# Altium integrated library Seeed-OPL-sensor.IntLib: 54 symbols
Pins are listed as number, name and electrical type; pins without a type are passive.

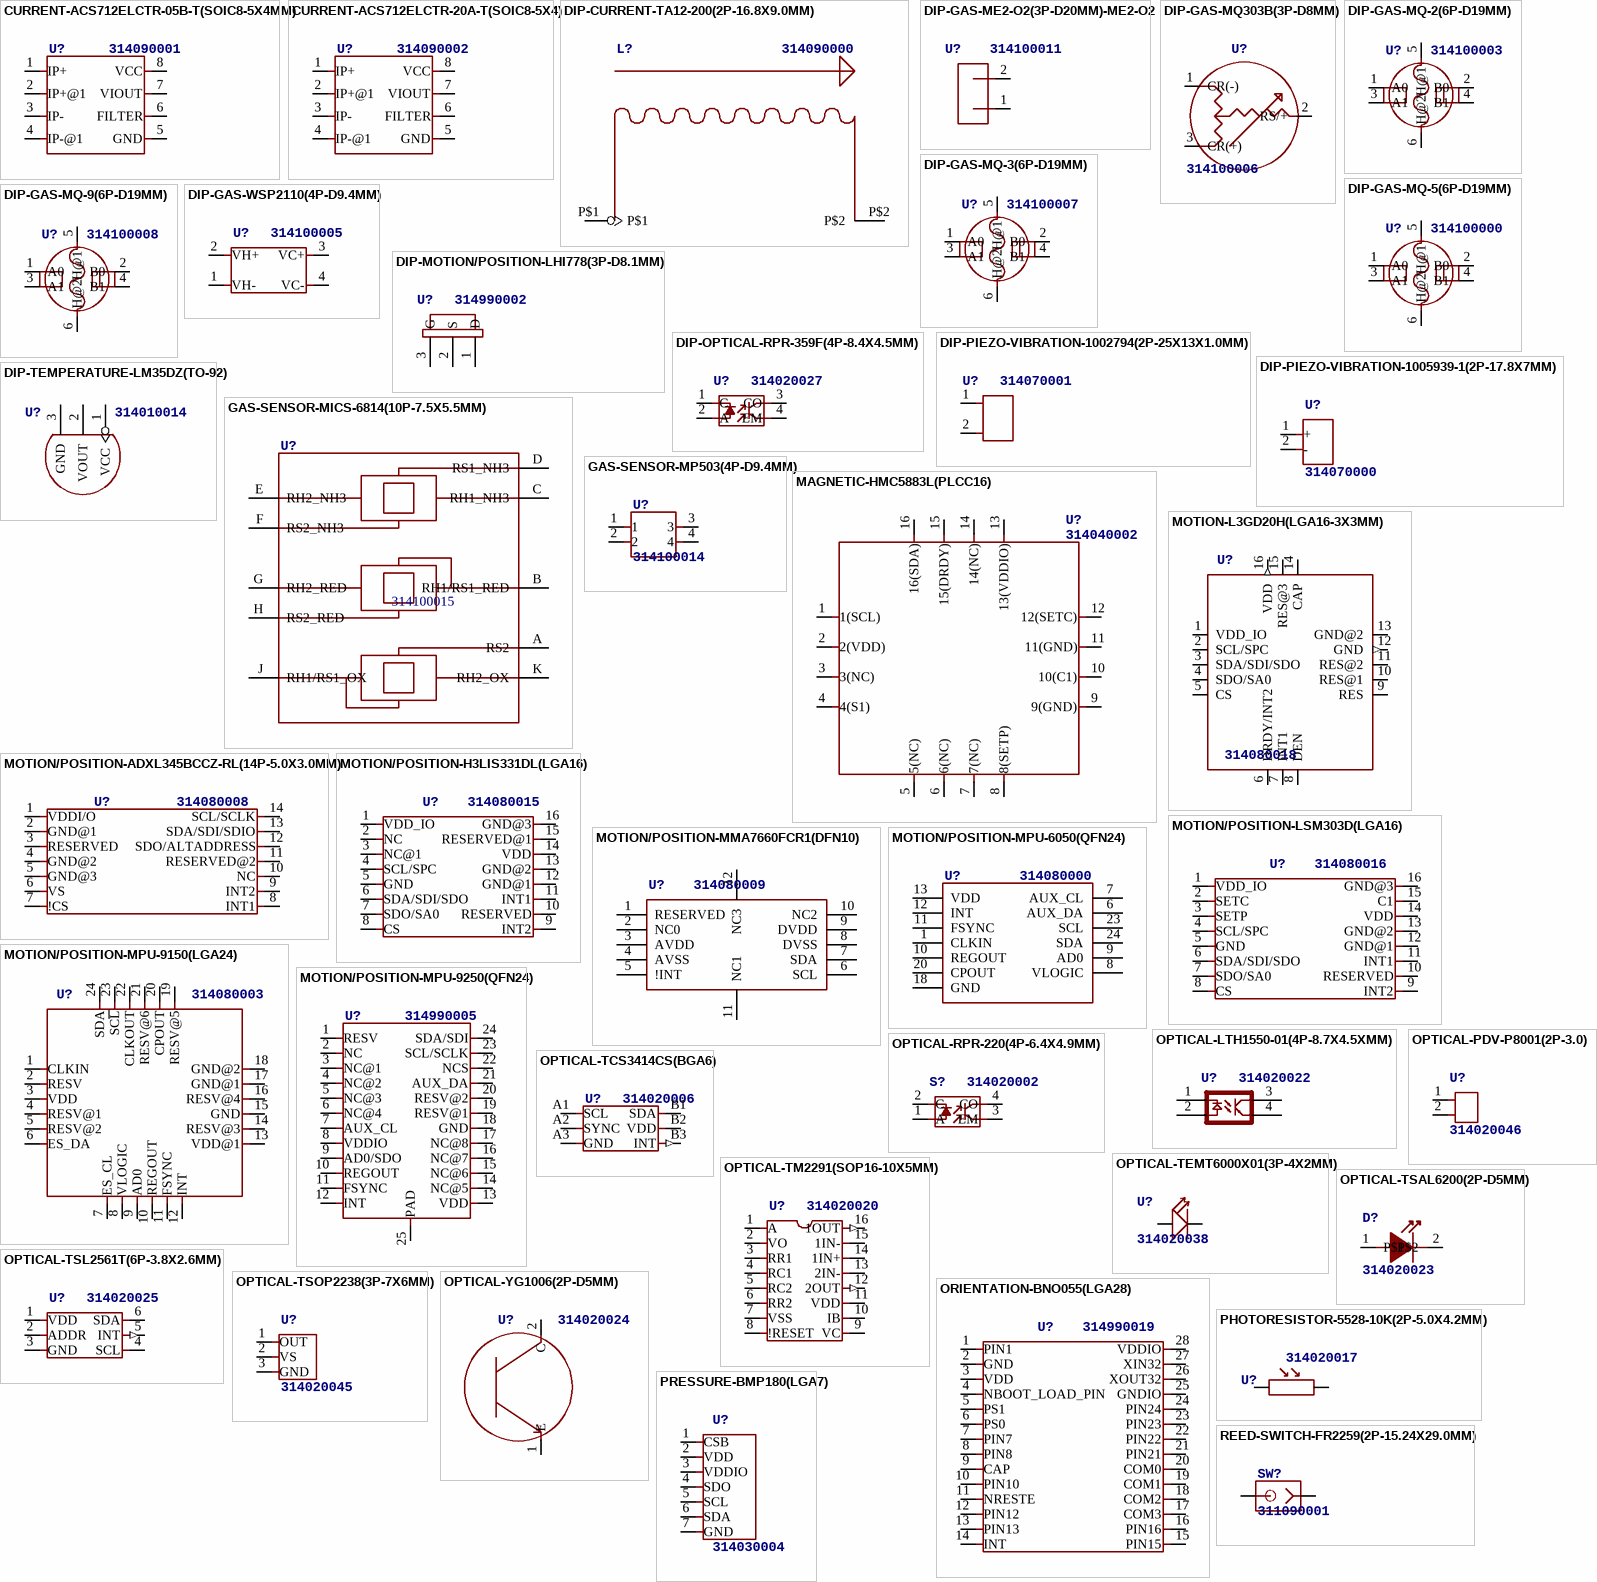
[diagram p0: symbols CURRENT-ACS712ELCTR-05B-T(SOIC8-5X4MM) to REED-SWITCH-FR2259(2P-15.24X29.0MM)]

## CURRENT-ACS712ELCTR-05B-T(SOIC8-5X4MM)
designator U?, comment 314090001
MPN: ACS712ELCTR-05B-T
footprint SOIC8-1.27-5X4MM
pins: 1 IP+, 2 IP+@1, 3 IP-, 4 IP-@1, 5 GND, 6 FILTER, 7 VIOUT, 8 VCC

## CURRENT-ACS712ELCTR-20A-T(SOIC8-5X4)
designator U?, comment 314090002
MPN: ACS712ELCTR-20A-T
footprint SOIC8-1.27-5X4MM
pins: 1 IP+, 2 IP+@1, 3 IP-, 4 IP-@1, 5 GND, 6 FILTER, 7 VIOUT, 8 VCC

## DIP-CURRENT-TA12-200(2P-16.8X9.0MM)
designator L?, comment 314090000
MPN: TA12-200
footprint SNR2-12.8-16.8X9.0X32.0MM
pins: P$1, P$2

## DIP-GAS-ME2-O2(3P-D20MM)-ME2-O2
designator U?, comment 314100011
MPN: GAS-ME2-O2
footprint SNR3-D20.2XH16.5MM
pins: 1, 2

## DIP-GAS-MQ303B(3P-D8MM)
designator U?, comment 314100006
MPN: MQ303B
footprint SNR3-2.2-D8XH7MM
pins: 1 CR(-), 2 RS/+, 3 CR(+)

## DIP-GAS-MQ-2(6P-D19MM)
designator U?, comment 314100003
MPN: MQ-2
footprint SNR6-D19.0MM
pins: 1 A0, 2 B0, 3 A1, 4 B1, 5 H@1, 6 H@2

## DIP-GAS-MQ-3(6P-D19MM)
designator U?, comment 314100007
MPN: MQ-3
footprint SNR6-D19.0MM
pins: 1 A0, 2 B0, 3 A1, 4 B1, 5 H@1, 6 H@2

## DIP-GAS-MQ-5(6P-D19MM)
designator U?, comment 314100000
MPN: MQ-5
footprint SNR6-D19.0MM
pins: 1 A0, 2 B0, 3 A1, 4 B1, 5 H@1, 6 H@2

## DIP-GAS-MQ-9(6P-D19MM)
designator U?, comment 314100008
MPN: MQ-9
footprint SNR6-D19.0MM
pins: 1 A0, 2 B0, 3 A1, 4 B1, 5 H@1, 6 H@2

## DIP-GAS-WSP2110(4P-D9.4MM)
designator U?, comment 314100005
MPN: WSP2110
footprint SNR4-3.5-D9.4XH7.6MM
pins: 1 VH-, 2 VH+, 3 VC+, 4 VC-

## DIP-MOTION/POSITION-LHI778(3P-D8.1MM)
designator U?, comment 314990002
MPN: LHI778
footprint SNR3-D8.1XH4.2MM
pins: 1 D, 2 S, 3 G

## DIP-OPTICAL-RPR-359F(4P-8.4X4.5MM)
designator U?, comment 314020027
MPN: RPR-359F
footprint SNR4-8.7X4.5X5.8MM
pins: 1 C, 2 A, 3 CO, 4 EM

## DIP-PIEZO-VIBRATION-1002794(2P-25X13X1.0MM)
designator U?, comment 314070001
MPN: VIBRATION-1002794
footprint SNR2-5.1-25.0X13.0X1.0MM
pins: 1, 2

## DIP-PIEZO-VIBRATION-1005939-1(2P-17.8X7MM)
designator U?, comment 314070000
MPN: VIBRATION-1005939-1
footprint SNR2-2.54-17.8X7.0X1.4MM
pins: 1 +, 2 -

## DIP-TEMPERATURE-LM35DZ(TO-92)
designator U?, comment 314010014
MPN: LM35DZ
footprint TO-92
pins: 1 VCC, 2 VOUT, 3 GND

## GAS-SENSOR-MICS-6814(10P-7.5X5.5MM)
designator U?, comment 314100015
MPN: MICS-6814
footprint SNR10-SMD-1.25-7.5X5.5MM
pins: A RS2, B RH1/RS1_RED, C RH1_NH3, D RS1_NH3, E RH2_NH3, F RS2_NH3, G RH2_RED, H RS2_RED, J RH1/RS1_OX, K RH2_OX

## GAS-SENSOR-MP503(4P-D9.4MM)
designator U?, comment 314100014
MPN: MP503
footprint SNR4-3.1-D9.4XH17MM
pins: 1, 2, 3, 4

## MAGNETIC-HMC5883L(PLCC16)
designator U?, comment 314040002
MPN: HMC5883L
footprint PLCC16-0.5-3X3MM
pins: 1 1(SCL), 2 2(VDD) (oe), 3 3(NC), 4 4(S1), 5 5(NC), 6 6(NC), 7 7(NC), 8 8(SETP), 9 9(GND) (power), 10 10(C1), 11 11(GND) (oe), 12 12(SETC), 13 13(VDDIO) (oe), 14 14(NC), 15 15(DRDY), 16 16(SDA)

## MOTION-L3GD20H(LGA16-3X3MM)
designator U?, comment 314080018
MPN: L3GD20H
footprint LGA16-0.5-3X3MM
pins: 1 VDD_IO, 2 SCL/SPC, 3 SDA/SDI/SDO, 4 SDO/SA0, 5 CS, 6 DRDY/INT2, 7 INT1 (oe), 8 DEN, 9 RES, 10 RES@1, 11 RES@2 (oe), 12 GND (out), 13 GND@2, 14 CAP, 15 RES@3, 16 VDD (out)

## MOTION/POSITION-ADXL345BCCZ-RL(14P-5.0X3.0MM)
designator U?, comment 314080008
MPN: ADXL345BCCZ-RL
footprint LGA14-0.8-5.0X3.0MM
pins: 1 VDDI/O (oe), 2 GND@1 (oe), 3 RESERVED, 4 GND@2 (oe), 5 GND@3 (oe), 6 VS, 7 !CS, 8 INT1, 9 INT2, 10 NC, 11 RESERVED@2, 12 SDO/ALTADDRESS, 13 SDA/SDI/SDIO, 14 SCL/SCLK

## MOTION/POSITION-H3LIS331DL(LGA16)
designator U?, comment 314080015
MPN: H3LIS331DL
footprint LGA16-0.5-3X3MM
pins: 1 VDD_IO, 2 NC, 3 NC@1, 4 SCL/SPC, 5 GND, 6 SDA/SDI/SDO, 7 SDO/SA0, 8 CS, 9 INT2, 10 RESERVED, 11 INT1, 12 GND@1, 13 GND@2, 14 VDD, 15 RESERVED@1, 16 GND@3

## MOTION/POSITION-LSM303D(LGA16)
designator U?, comment 314080016
MPN: LSM303D
footprint LGA16-0.5-3X3MM
pins: 1 VDD_IO, 2 SETC, 3 SETP, 4 SCL/SPC, 5 GND, 6 SDA/SDI/SDO, 7 SDO/SA0, 8 CS, 9 INT2, 10 RESERVED, 11 INT1, 12 GND@1, 13 GND@2, 14 VDD, 15 C1, 16 GND@3

## MOTION/POSITION-MMA7660FCR1(DFN10)
designator U?, comment 314080009
MPN: MMA7660FCR1
footprint DFN10-0.5-3.0X3.0MM
pins: 1 RESERVED, 2 NC0, 3 AVDD, 4 AVSS, 5 !INT, 6 SCL, 7 SDA, 8 DVSS, 9 DVDD, 10 NC2, 11 NC1, 12 NC3

## MOTION/POSITION-MPU-6050(QFN24)
designator U?, comment 314080000
MPN: MPU-6050
footprint QFN24G-0.5-4X4MM
pins: 1 CLKIN, 6 AUX_DA, 7 AUX_CL, 8 VLOGIC, 9 AD0, 10 REGOUT, 11 FSYNC, 12 INT, 13 VDD, 18 GND, 20 CPOUT, 23 SCL, 24 SDA

## MOTION/POSITION-MPU-9150(LGA24)
designator U?, comment 314080003
MPN: MPU-9150
footprint LGA24-0.5-4X4MM
pins: 1 CLKIN, 2 RESV, 3 VDD, 4 RESV@1, 5 RESV@2, 6 ES_DA, 7 ES_CL, 8 VLOGIC, 9 AD0, 10 REGOUT, 11 FSYNC, 12 INT, 13 VDD@1, 14 RESV@3, 15 GND, 16 RESV@4, 17 GND@1, 18 GND@2, 19 RESV@5, 20 CPOUT, 21 RESV@6, 22 CLKOUT, 23 SC~{L}, 24 SDA

## MOTION/POSITION-MPU-9250(QFN24)
designator U?, comment 314990005
MPN: MPU-9250
footprint QFN24G-0.4-3X3MM
pins: 1 RESV, 2 NC, 3 NC@1, 4 NC@2, 5 NC@3, 6 NC@4, 7 AUX_CL, 8 VDDIO, 9 AD0/SDO, 10 REGOUT, 11 FSYNC, 12 INT, 13 VDD, 14 NC@5, 15 NC@6, 16 NC@7, 17 NC@8, 18 GND, 19 RESV@1, 20 RESV@2, 21 AUX_DA, 22 NCS, 23 SCL/SCLK, 24 SDA/SDI, 25 PAD

## OPTICAL-LTH1550-01(4P-8.7X4.5XMM)
designator U?, comment 314020022
MPN: LTH1550-01
footprint SNR4-2.54-8.7X4.5X5.8MM
pins: 1, 2, 3, 4

## OPTICAL-PDV-P8001(2P-3.0)
designator U?, comment 314020046
MPN: PDV-P8001
footprint SNR2-3.0
pins: 1, 2

## OPTICAL-RPR-220(4P-6.4X4.9MM)
designator S?, comment 314020002
MPN: RPR-220
footprint SNR4-8.7X4.5X5.8MM
pins: 1 A, 2 C, 3 EM, 4 CO

## OPTICAL-TCS3414CS(BGA6)
designator U?, comment 314020006
MPN: TCS3414CS
footprint BGA6-0.6-2.0X1.9MM
pins: A1 SCL, A2 SYNC, A3 GND (oe), B1 SDA, B2 VDD (power), B3 INT (out)

## OPTICAL-TEMT6000X01(3P-4X2MM)
designator U?, comment 314020038
MPN: TEMT6000X01
footprint SNR3-4X2X1.05MM
pins: 1 2 +, 3 -

## OPTICAL-TM2291(SOP16-10X5MM)
designator U?, comment 314020020
MPN: TM2291
footprint SOP16-1.27-10.0X5.0MM
pins: 1 A, 2 VO, 3 RR1, 4 RC1, 5 RC2, 6 RR2, 7 VSS (oe), 8 !RESET, 9 VC, 10 IB, 11 VDD (oe), 12 2OUT (out), 13 2IN-, 14 1IN+, 15 1IN-, 16 1OUT (out)

## OPTICAL-TSAL6200(2P-D5MM)
designator D?, comment 314020023
MPN: TSAL6200
footprint SNR2-2.54-D5.0MM
pins: 1 P$1, 2 P$2

## OPTICAL-TSL2561T(6P-3.8X2.6MM)
designator U?, comment 314020025
MPN: TSL2561T
footprint TMB6-1.55-3.8X2.6MM
pins: 1 VDD (oe), 2 ADDR, 3 GND (oe), 4 SCL, 5 INT (out), 6 SDA

## OPTICAL-TSOP2238(3P-7X6MM)
designator U?, comment 314020045
MPN: TSOP2238
footprint SNR3-2.54-6.95X6.0X5.6MM
pins: 1 OUT, 2 VS, 3 GND

## OPTICAL-YG1006(2P-D5MM)
designator U?, comment 314020024
MPN: YG1006
footprint 2P-2.54-5MM
pins: 1 E, 2 C

## ORIENTATION-BNO055(LGA28)
designator U?, comment 314990019
MPN: BNO055
footprint LGA28-0.5-5.2X3.8
pins: 1 PIN1, 2 GND, 3 VDD, 4 NBOOT_LOAD_PIN, 5 PS1, 6 PS0, 7 PIN7, 8 PIN8, 9 CAP, 10 PIN10, 11 NRESTE, 12 PIN12, 13 PIN13, 14 INT, 15 PIN15, 16 PIN16, 17 COM3, 18 COM2, 19 COM1, 20 COM0, 21 PIN21, 22 PIN22, 23 PIN23, 24 PIN24, 25 GNDIO, 26 XOUT32, 27 XIN32, 28 VDDIO

## PHOTORESISTOR-5528-10K(2P-5.0X4.2MM)
designator U?, comment 314020017
MPN: PHOTORESISTOR-5528-10K
footprint SNR2-3.0
pins: 1 P$1, 2 P$2

## PRESSURE-BMP180(LGA7)
designator U?, comment 314030004
MPN: BMP18
footprint LGA7-1.5-3.8X3.6MM
pins: 1 CSB, 2 VDD, 3 VDDIO, 4 SDO, 5 SCL, 6 SDA, 7 GND

## REED-SWITCH-FR2259(2P-15.24X29.0MM)
designator SW?, comment 311090001
MPN: FR2259
footprint SW2-SMD-15.24X2.29.0X2.03MM
pins: 1, 2

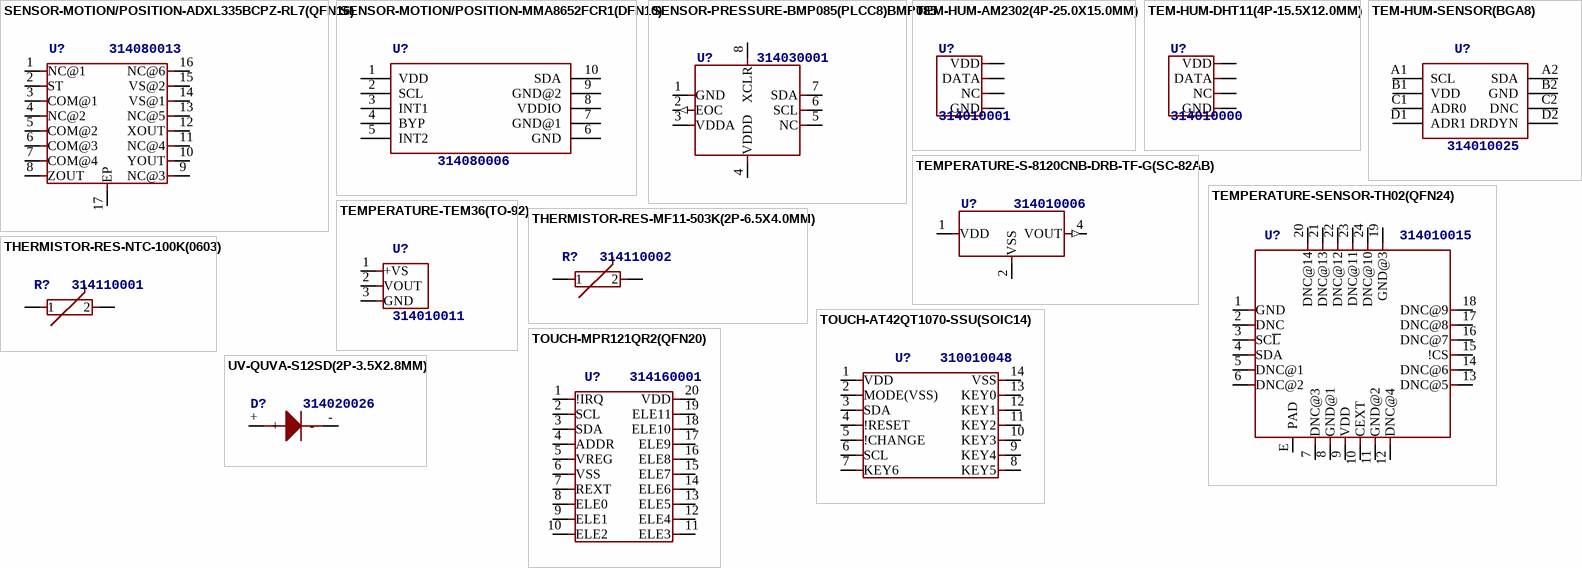
[diagram p1: symbols SENSOR-MOTION/POSITION-ADXL335BCPZ-RL7(QFN16) to UV-QUVA-S12SD(2P-3.5X2.8MM)]

## SENSOR-MOTION/POSITION-ADXL335BCPZ-RL7(QFN16)
designator U?, comment 314080013
MPN: ADXL335BCPZ-RL7
footprint QFN16G-0.65-4X4MM
pins: 1 NC@1, 2 ST, 3 COM@1, 4 NC@2, 5 COM@2, 6 COM@3, 7 COM@4, 8 ZOUT, 9 NC@3, 10 YOUT, 11 NC@4, 12 XOUT, 13 NC@5, 14 VS@1, 15 VS@2, 16 NC@6, 17 EP

## SENSOR-MOTION/POSITION-MMA8652FCR1(DFN10)
designator U?, comment 314080006
MPN: MMA8652FCR1
footprint DFN10-0.4-2X2MM
pins: 1 VDD (power), 2 SCL, 3 INT1, 4 BYP, 5 INT2, 6 GND (oe), 7 GND@1 (oe), 8 VDDIO (power), 9 GND@2 (oe), 10 SDA

## SENSOR-PRESSURE-BMP085(PLCC8)BMP085
designator U?, comment 314030001
MPN: BMP085
footprint LCC8-1.27-5.0X5.0MM
pins: 1 GND (oe), 2 EOC (out), 3 VDDA (oe), 4 VDDD (oe), 5 NC, 6 SCL, 7 SDA, 8 XCLR

## TEM-HUM-AM2302(4P-25.0X15.0MM)
designator U?, comment 314010001
MPN: AM2302
footprint SNR4-2.54-25.0X15.0X7.0MM
pins: P$1 VDD (oe), P$2 DATA, P$3 NC, P$4 GND (oe)

## TEM-HUM-DHT11(4P-15.5X12.0MM)
designator U?, comment 314010000
MPN: DHT11
footprint SNR4-2.54-15.5X12.0X5.5MM
pins: 1 VDD (oe), 2 DATA, 3 NC, 4 GND (oe)

## TEM-HUM-SENSOR(BGA8)
designator U?, comment 314010025
PMN: HDC1000YPAT
footprint SNR8-SMD-0.5-2.04X1.59MM
pins: A1 SCL, A2 SDA, B1 VDD, B2 GND, C1 ADR0, C2 DNC, D1 ADR1, D2 DRDYN

## TEMPERATURE-S-8120CNB-DRB-TF-G(SC-82AB)
designator U?, comment 314010006
MPN: S-8120CNB-DRB-TF-G
footprint SC-82AB
pins: 1 VDD (oe), 2 VSS (oe), 4 VOUT (out)

## TEMPERATURE-SENSOR-TH02(QFN24)
designator U?, comment 314010015
MPN: TH02
footprint QFN24G-0.5-4X4MM
pins: 1 GND (oe), 2 DNC, 3 SC~{L}, 4 SDA, 5 DNC@1, 6 DNC@2, 7 DNC@3, 8 GND@1 (oe), 9 VDD (power), 10 CEXT, 11 GND@2 (oe), 12 DNC@4 (oe), 13 DNC@5, 14 DNC@6, 15 !CS, 16 DNC@7, 17 DNC@8, 18 DNC@9, 19 GND@3 (oe), 20 DNC@14, 21 DNC@13, 22 DNC@12, 23 DNC@11, 24 DNC@10, E PAD

## TEMPERATURE-TEM36(TO-92)
designator U?, comment 314010011
MPN: TEM36
footprint TO-92-3
pins: 1 +VS, 2 VOUT, 3 GND

## THERMISTOR-RES-MF11-503K(2P-6.5X4.0MM)
designator R?, comment 314110002
MPN: MF11-503K
footprint SNR2-2.5-6.5X4.0MM
pins: 1, 2

## THERMISTOR-RES-NTC-100K(0603)
designator R?, comment 314110001
MPN: NCP18WF104F03RC
footprint R0603
pins: 1, 2

## TOUCH-AT42QT1070-SSU(SOIC14)
designator U?, comment 310010048
MPN: AT42QT1070-SSU
footprint SOIC14-1.27-9.3X4.3MM
pins: 1 VDD, 2 MODE(VSS), 3 SDA, 4 !RESET, 5 !CHANGE, 6 SCL, 7 KEY6, 8 KEY5, 9 KEY4, 10 KEY3, 11 KEY2, 12 KEY1, 13 KEY0, 14 VSS

## TOUCH-MPR121QR2(QFN20)
designator U?, comment 314160001
MPN: MPR121QR2
footprint QFN20-0.4-3X3M
pins: 1 !IRQ, 2 SCL, 3 SDA, 4 ADDR, 5 VREG, 6 VSS, 7 REXT, 8 ELE0, 9 ELE1, 10 ELE2, 11 ELE3, 12 ELE4, 13 ELE5, 14 ELE6, 15 ELE7, 16 ELE8, 17 ELE9, 18 ELE10, 19 ELE11, 20 VDD

## UV-QUVA-S12SD(2P-3.5X2.8MM)
designator D?, comment 314020026
MPN: UV-QUVA-S12SD
footprint SMD3528
pins: +, -